# Altium footprint library SODFL370X185X108L63X95N.PcbLib: 1 footprints
Each footprint in its own frame and in the unit in brackets; x right, y up, seen from the top. Pads: shape width x height; smd on the part's side, far side on the other; paste and mask are expansions set on the pad; w line width, h text height; cw(c..) or ccw(c..) is an arc to the next point about the centre after c.
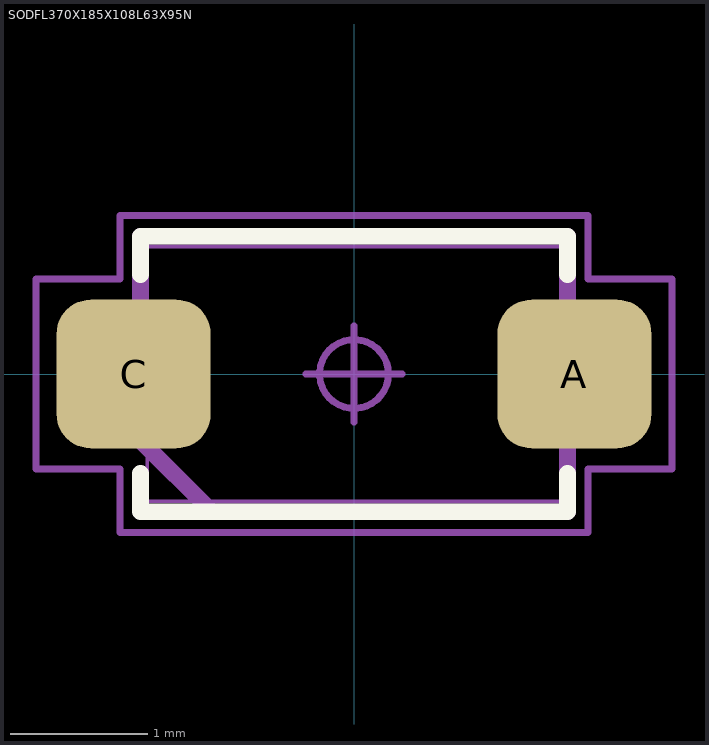
[diagram p0: the footprint, top view; thin cyan lines are the x and y axes]

## SODFL370X185X108L63X95N [mm] "Diode, Small Outline Diode Flat Lead (SODFL); 3.00 mm L X 1.85 mm W X 1.08 mm H body"
height 1.08
pads (2):
  rrect46% 1.12x1.08 smd: A(1.6,0) C(-1.6,0)
Top Overlay:
  lines w0.12: -1.55,-0.72 -1.55,-1 1.55,-1 1.55,-0.72 ; -1.55,0.72 -1.55,1 1.55,1 1.55,0.72
Mechanical 3:
  lines w0.12: -1.55,-0.482 -1.032,-1 1.55,-1 1.55,1 -1.55,1 -1.55,-0.482
Mechanical 5:
  lines w0.025: -1.85,-0.475 -1.22,-0.475 -1.22,0.475 -1.85,0.475 -1.85,-0.475 ; -1.5,-0.925 -1.5,0.925 1.5,0.925 1.5,-0.925 -1.5,-0.925 ; 1.22,-0.475 1.22,0.475 1.85,0.475 1.85,-0.475 1.22,-0.475
Mechanical 7:
  circle w0.05: c0,0 r0.25
  lines w0.05: -0.35,0 0.35,0 ; 0,-0.35 0,0.35 ; -2.31,-0.69 -2.31,0.69 -1.7,0.69 -1.7,1.15 1.7,1.15 1.7,0.69 2.31,0.69 2.31,-0.69 1.7,-0.69 1.7,-1.15 -1.7,-1.15 -1.7,-0.69 -2.31,-0.69
Mechanical 9:
  text "'.Designator'" at -5.207,-0.254 h1
3D body "SODFL370X185X108L63X95.STEP": height 1.08, standoff 0, extent -1.85,-0.925 1.85,0.925
3D body: height 1, standoff 0, extent -2.31,-1.15 2.31,1.15